# EAGLE library part A3G4250D (library UpBoard B)
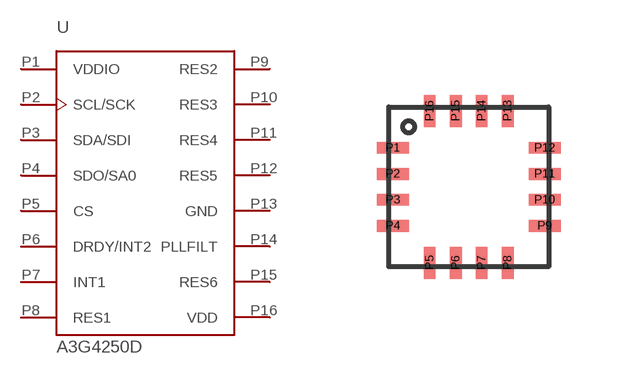
[diagram p8: symbol with the pads of LGA-16; footprint LGA-16]

Designator prefix -

## A3G4250D  [LGA-16]
P1  VDDIO  pwr
P2  SCL/SCK
P3  SDA/SDI
P4  SDO/SA0
P5  CS
P6  DRDY/INT2
P7  INT1
P8  RES1
P9  RES2
P10  RES3
P11  RES4
P12  RES5
P13  GND  sup
P14  PLLFILT
P15  RES6
P16  VDD  pwr

## Footprint LGA-16 (pad centres in mm)
smd 0.8 x 0.3: P1 -1.9,0.975; P2 -1.9,0.325; P3 -1.9,-0.325; P4 -1.9,-0.975; P9 1.9,-0.975; P10 1.9,-0.325; P11 1.9,0.325; P12 1.9,0.975
smd 0.3 x 0.8: P5 -0.975,-1.9; P6 -0.325,-1.9; P7 0.325,-1.9; P8 0.975,-1.9; P13 0.975,1.9; P14 0.325,1.9; P15 -0.325,1.9; P16 -0.975,1.9